# Altium schematic symbol library TLV76718DGNR.SchLib: 1 symbol
Pins are listed as number, name and electrical type; pins without a type are passive.

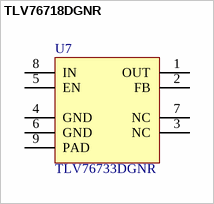
[diagram p0: symbol TLV76718DGNR]

## TLV76718DGNR
designator U7, comment TLV76733DGNR
Max Input Voltage: 16 V; Output Current: 1A; Output Voltage: 3.3 V; IC Case Style: HVSSOP-8; ComponentLinkDescription: Datasheet; FR_SN: IC_Reg-13; Part Number: TLV76733DGNR; Value: TLV76733DGNR; Category: Linear Voltage Regulator; Manufacturer Part Number: TLV76733DGNR; ComponentLinkURL: https://www.ti.com/lit/ds/symlink/tlv767.pdf?ts=1605220707387; Supplier Part Number: 595-TLV76733DGNR
footprint SOP9P65_300X490X110L55X31T205X174N (Small Outline Pkg (SOP with Tab), 0.65 mm pitch; 8 pin, 3.00 mm L X 3.00 mm W X 1.10 mm H body)
pins: 1 OUT, 2 FB, 3 NC, 4 GND, 5 EN, 6 GND, 7 NC, 8 IN, 9 PAD